# EAGLE library part TLC555 (library ds_ic_logic)
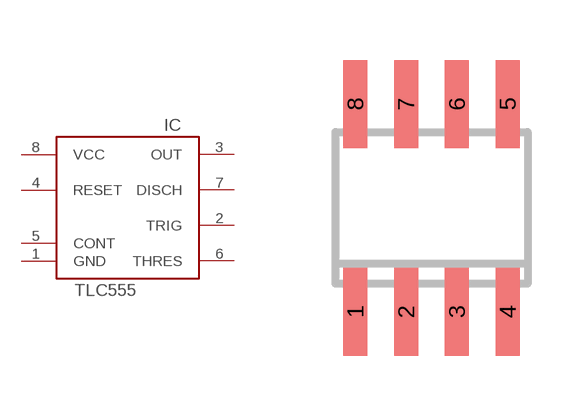
[diagram p16: symbol with the pads of SO8; footprint SO8]

Designator prefix IC

## TLC555 (DATASHEET: https://www.ti.com/lit/ds/symlink/tlc555.pdf; DESCRIPTION: 2.1MHz SOIC-8 Timers / Counters ROHS; LCSC_PART: C6986; VALUE: TLC555CDR)  [SO8]
1  GND  pwr
2  TRIG  in
3  OUT  out
4  RESET  in
5  CONT  in
6  THRES  in
7  DISCH  out
8  VCC  pwr

## Footprint SO8 (pad centres in mm)
SMALL OUTLINE INTEGRATED CIRCUIT
smd 0.6 x 2.2: 1 -1.905,-2.6; 2 -0.635,-2.6; 3 0.635,-2.6; 4 1.905,-2.6; 5 1.905,2.6; 6 0.635,2.6; 7 -0.635,2.6; 8 -1.905,2.6